# Altium footprint library LT1961.PcbLib: 1 footprints
Each footprint in its own frame and in the unit in brackets; x right, y up, seen from the top. Pads: shape width x height; smd on the part's side, far side on the other; paste and mask are expansions set on the pad; w line width, h text height; cw(c..) or ccw(c..) is an arc to the next point about the centre after c.
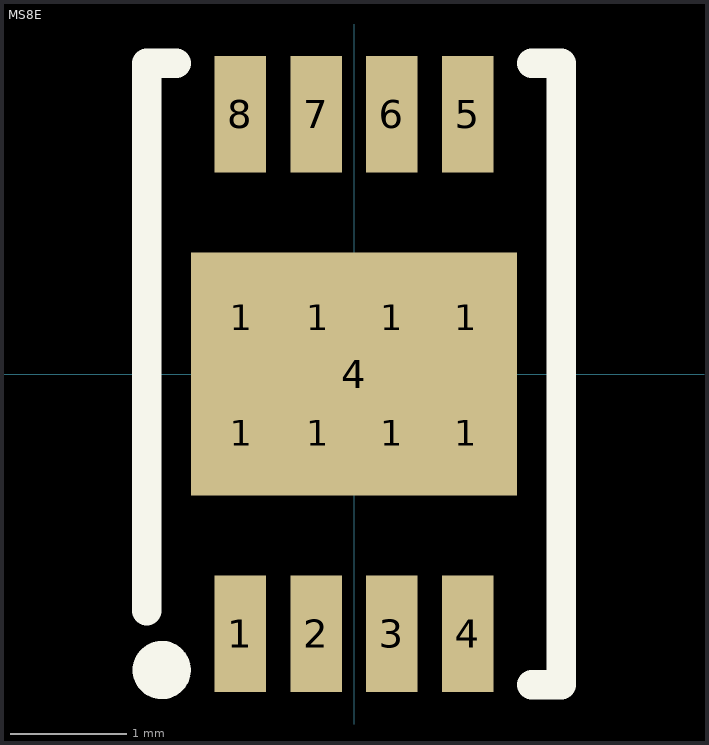
[diagram p0: the footprint, top view; thin cyan lines are the x and y axes]

## MS8E [mm] "Linear Technology 8-Lead PLASTIC MSOP Exposed Ground (LT1961)"
pads (17):
  rect 0.44x1 smd: 1(-0.975,-2.23) 2(-0.325,-2.23) 3(0.325,-2.23) 4(0.975,-2.23) 5(0.975,2.23) 6(0.325,2.23) 7(-0.325,2.23) 8(-0.975,2.23)
  rect 0.4x0.8 on Top Paste: 1(-0.965,-0.508) 1(-0.965,0.483) 1(-0.305,-0.508) 1(-0.305,0.483) 1(0.33,-0.508) 1(0.33,0.483) 1(0.965,-0.508) 1(0.965,0.483)
  rect 2.794x2.083 smd paste-100: 4(0,0)
Top Overlay:
  circle w0.25: c-1.649,-2.54 r0.125
  lines w0.254: -1.778,-2.032 -1.778,2.667 -1.524,2.667 ; 1.524,-2.667 1.778,-2.667 1.778,2.667 1.524,2.667